# Altium schematic symbol library UJC-HP2-3-SMT-TR.SchLib: 2 symbols
Pins are listed as number, name and electrical type; pins without a type are passive.

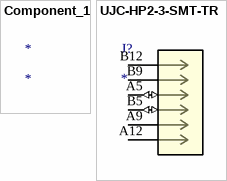
[diagram p0: symbols Component_1 to UJC-HP2-3-SMT-TR]

## Component_1
designator *

## UJC-HP2-3-SMT-TR
designator J?
No Description Available; Mfr_Name: Same Sky; Type: USB, DVI, HDMI, Connectors; RefDes: RefDes
footprint CONN6_UJC-HP2_CUD
pins: A5 (io), A9, A12 (power), B5 (io), B9, B12 (power)